# EAGLE library part RTC_B (library tlc5940)
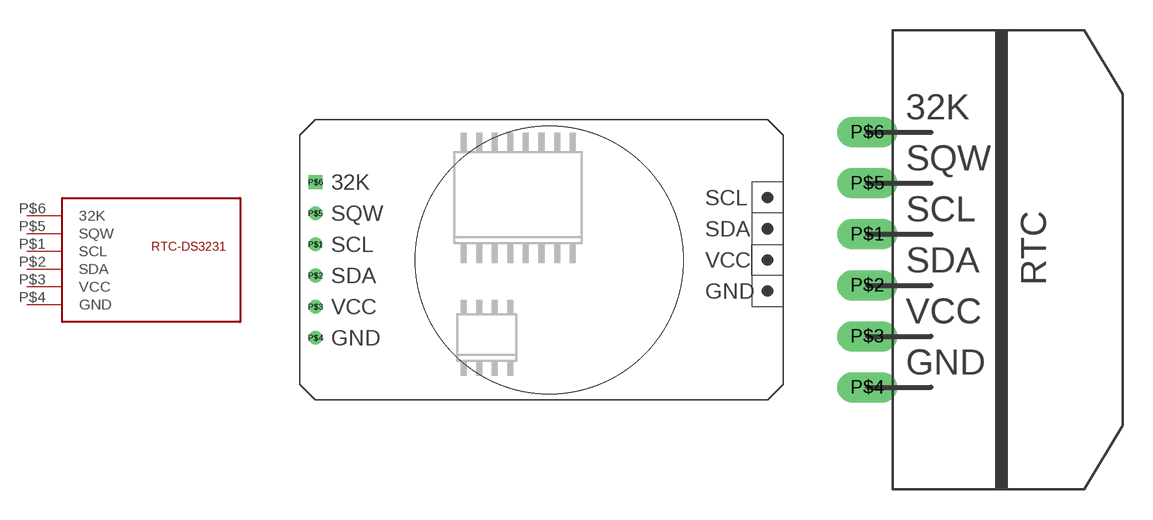
[diagram p3: symbol with the pads of RTC_BH; footprints RTC_BH, RTC_BV]

Designator prefix -

## RTC_BHORIZONTAL  [RTC_BH]
P$1  SCL
P$2  SDA
P$3  VCC
P$4  GND
P$5  SQW
P$6  32K

## RTC_BVERTICAL  [RTC_BV]
Pads as for RTC_BH

## Footprint RTC_BH (pad centres in mm)
drill 0.6: P$1 -19.05,1.27; P$2 -19.05,-1.27; P$3 -19.05,-3.81; P$4 -19.05,-6.35; P$5 -19.05,3.81
drill 0.6 square: P$6 -19.05,6.35

## Footprint RTC_BV (pad centres in mm)
drill 1 long: P$1 -6.35,1.27; P$2 -6.35,-1.27; P$3 -6.35,-3.81; P$4 -6.35,-6.35; P$5 -6.35,3.81; P$6 -6.35,6.35